# Altium footprint library TACT SWITCH 10x10.PcbLib: 1 footprints
Each footprint in its own frame and in the unit in brackets; x right, y up, seen from the top. Pads: shape width x height; smd on the part's side, far side on the other; paste and mask are expansions set on the pad; w line width, h text height; cw(c..) or ccw(c..) is an arc to the next point about the centre after c.
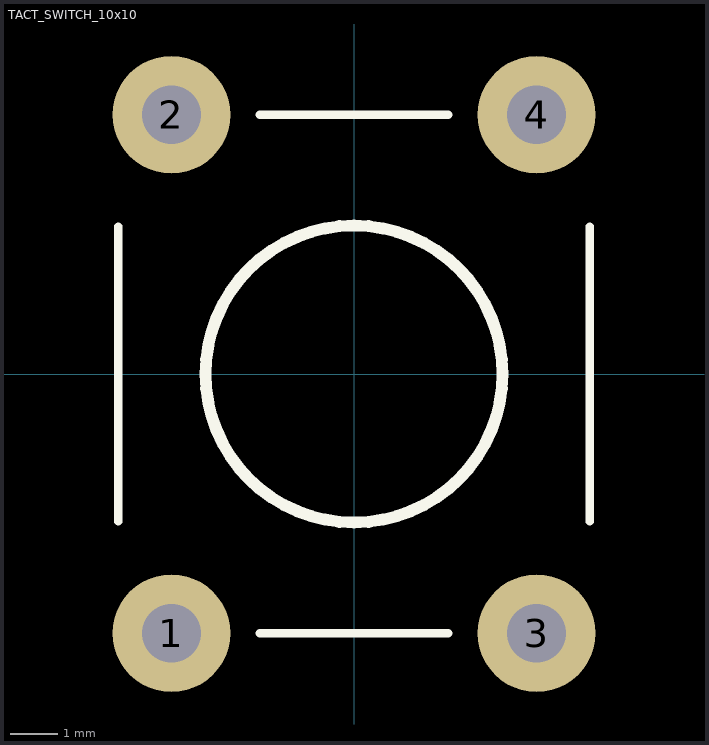
[diagram p0: the footprint, top view; thin cyan lines are the x and y axes]

## TACT_SWITCH_10x10 [mm]
pads (4):
  round 2.5 hole 1.25: 1(-3.873,-5.5) 2(-3.873,5.5) 3(3.873,-5.5) 4(3.873,5.5)
Top Overlay:
  circle w0.254: c0,0 r3.15
  lines w0.178: -5,-3.128 -5,3.128 ; -2,-5.5 2,-5.5 ; -2,5.5 2,5.5 ; 5,-3.128 5,3.128